# Altium footprint library Connectors.PcbLib: 67 footprints (part 2 of 5)
Each footprint in its own frame and in the unit in brackets; x right, y up, seen from the top. Pads: shape width x height; smd on the part's side, far side on the other; paste and mask are expansions set on the pad; w line width, h text height; cw(c..) or ccw(c..) is an arc to the next point about the centre after c.
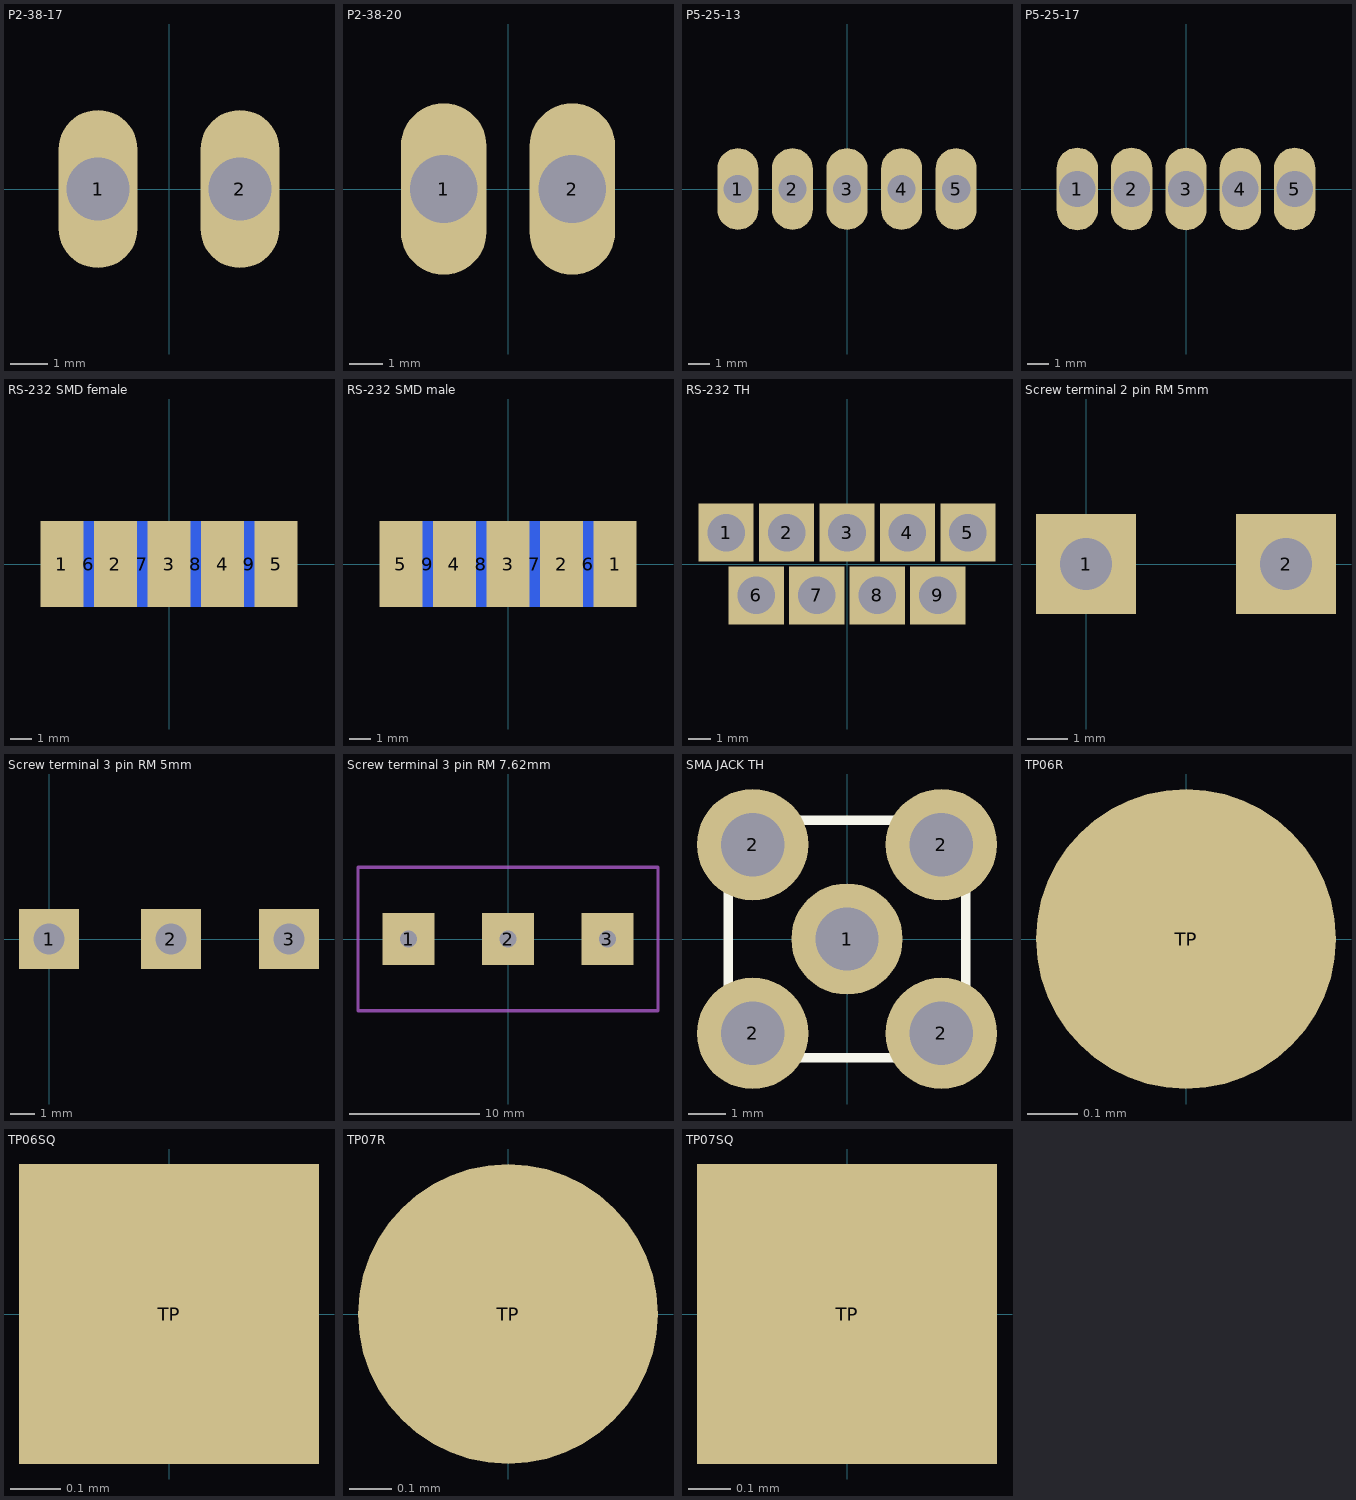
[diagram p1: the footprints below, top view; thin cyan lines are the x and y axes]

## P2-38-17 [mil]
pads (2):
  oval 83.5x167 hole 67: 1(-75,0) 2(75,0)
Mechanical 18:
  circle w6: c-75,0 r32
  circle w6: c75,0 r32
  rectangle: -88,-13 -62,13
  rectangle: 62,-13 88,13

## P2-38-20 [mil]
pads (2):
  oval 100x200 hole 79: 1(-75,0) 2(75,0)
Mechanical 18:
  circle w6: c-75,0 r40
  circle w6: c75,0 r40
  rectangle: -88,-13 -62,13
  rectangle: 62,-13 88,13

## P5-25-13 [mil]
pads (5):
  oval 75x150 hole 52: 1(-200,0) 2(-100,0) 3(0,0) 4(100,0) 5(200,0)
Mechanical 18:
  circle w6: c0,0 r30
  circle w6: c100,0 r30
  circle w6: c200,0 r30
  circle w6: c-100,0 r30
  circle w6: c-200,0 r30
  rectangle: -13,-13 13,13
  rectangle: 87,-13 113,13
  rectangle: 187,-13 213,13
  rectangle: -113,-13 -87,13
  rectangle: -213,-13 -187,13

## P5-25-17 [mil]
pads (5):
  oval 76x152 hole 67: 1(-200,0) 2(-100,0) 3(0,0) 4(100,0) 5(200,0)
Mechanical 18:
  circle w6: c0,0 r32
  circle w6: c-200,0 r32
  circle w6: c-100,0 r32
  circle w6: c100,0 r32
  circle w6: c200,0 r32
  rectangle: -13,-13 13,13
  rectangle: -213,-13 -187,13
  rectangle: -113,-13 -87,13
  rectangle: 87,-13 113,13
  rectangle: 187,-13 213,13

## RS-232 SMD female [mm]
pads (9):
  rect 2x4 smd: 1(-5,0) 2(-2.5,0) 3(0,0) 4(2.5,0) 5(5,0)
  rect 2x4 smd far side: 6(-3.75,0) 7(-1.25,0) 8(1.25,0) 9(3.75,0)

## RS-232 SMD male [mm]
pads (9):
  rect 2x4 smd: 1(5,0) 2(2.5,0) 3(0,0) 4(-2.5,0) 5(-5,0)
  rect 2x4 smd far side: 6(3.75,0) 7(1.25,0) 8(-1.25,0) 9(-3.75,0)
3D body "D-SUB_9.STEP": height 6.27, standoff -6.27, extent -15.3,-1.9 15.5,15

## RS-232 TH [mm]
pads (9):
  rect 2.5x2.63 hole 1.7: 1(-5.48,1.42) 2(-2.74,1.42) 3(0,1.42) 4(2.74,1.42) 5(5.48,1.42) 6(-4.11,-1.42) 7(-1.37,-1.42) 8(1.37,-1.42) 9(4.11,-1.42)
3D body "D-SUB_9.STEP": height 12.6, standoff -4.3, extent -15.4,-6.275 15.4,6.275

## Screw terminal 2 pin RM 5mm [mm] "DG301-5.0-02"
pads (2):
  rect 2.5x2.5 hole 1.3: 1(0,0) 2(5,0)
3D body "DG301-5.0-02.stp": height 10, standoff -4.4, extent -3.1,-3.1 7.5,4.5

## Screw terminal 3 pin RM 5mm [mm] "DG301-5.0-03"
pads (3):
  rect 2.5x2.5 hole 1.3: 1(0,0) 2(5.08,0) 3(10,0)
3D body "DG301-5.0-03.stp": height 10, standoff -4.4, extent -3.05,-3.1 12.55,4.5

## Screw terminal 3 pin RM 7.62mm [mm]
pads (3):
  rect 4x4 hole 1.3: 1(-7.62,0) 2(0,0) 3(7.62,0)
Mechanical 1:
  lines w0.254: -11.5,-5.5 11.5,-5.5 11.5,5.5 -11.5,5.5 -11.5,-5.5

## SMA JACK TH [mm]
pads (5):
  round 3 hole 1.7: 1(0,0)
  round 3 hole 1.7 mask+0: 2(-2.54,-2.54) 2(-2.54,2.54) 2(2.54,-2.54) 2(2.54,2.54)
Top Overlay:
  lines w0.254: -3.2,-3.2 3.2,-3.2 3.2,3.2 -3.2,3.2 -3.2,-3.2
3D body "c-0221789-01-e-3d.stp": height 10, standoff -3.46, extent -3.175,-3.175 3.175,3.175

## SO-DIMM 200PIN [mm]
3D body "c-2013022-1-b-3d.stp": height 4.15, standoff -0.65, extent -35.75,-3.12 35.75,23.33

## TP06R [mm]
pads (1):
  rrect100% 0.6x0.6 smd paste-0.3: TP(0,0)

## TP06SQ [mm]
pads (1):
  rect 0.6x0.6 smd paste-0.3: TP(0,0)

## TP07R [mm]
pads (1):
  rrect100% 0.7x0.7 smd paste-0.35: TP(0,0)

## TP07SQ [mm]
pads (1):
  rect 0.7x0.7 smd paste-0.35: TP(0,0)